# Altium schematic symbol library other.SchLib: 1 symbol
Pins are listed as number, name and electrical type; pins without a type are passive.

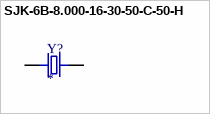
[diagram p0: symbol SJK-6B-8.000-16-30-50-C-50-H]

## SJK-6B-8.000-16-30-50-C-50-H
designator Y?
Crystals 8MHz HC49S; MF: ECS International; MP: ECS-17.1776-20-4; SnapEDA_Link: https://www.snapeda.com/parts/ECS-17.1776-20-4/ECS/view-part/?ref=snap; Package: HC-49US ECS Inc.; Value: *; Check_prices: https://www.snapeda.com/parts/ECS-17.1776-20-4/ECS/view-part/?ref=eda
footprint HC-49S
pins: 1, 2